# Altium footprint library QFN-28 (5x6).PcbLib: 1 footprints
Each footprint in its own frame and in the unit in brackets; x right, y up, seen from the top. Pads: shape width x height; smd on the part's side, far side on the other; paste and mask are expansions set on the pad; w line width, h text height; cw(c..) or ccw(c..) is an arc to the next point about the centre after c.
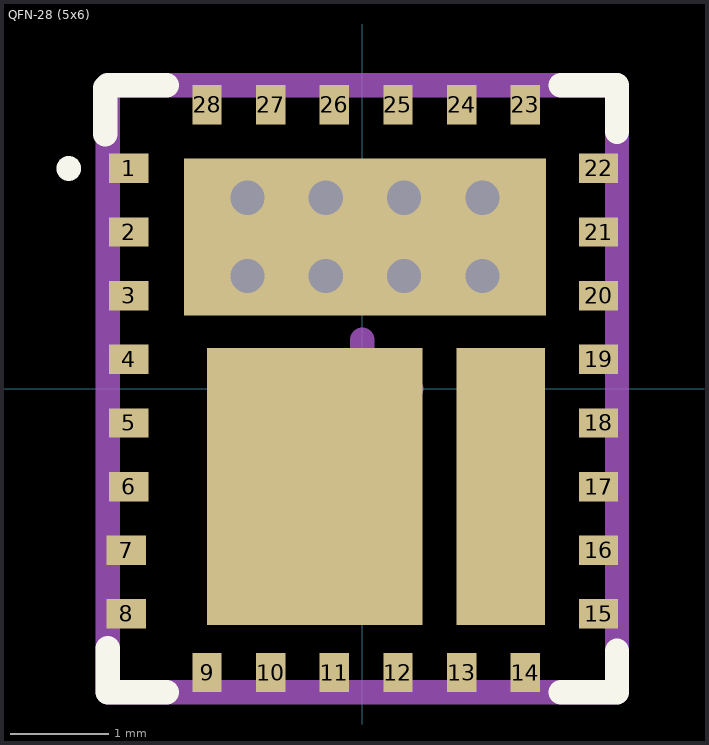
[diagram p0: the footprint, top view; thin cyan lines are the x and y axes]

## QFN-28 (5x6) [mm]
pads (31):
  rect 0.4x0.3 smd mask+0.051: 1(-2.388,2.25) 2(-2.388,1.6) 3(-2.388,0.95) 4(-2.388,0.3) 5(-2.388,-0.35) 6(-2.388,-1) 7(-2.412,-1.65) 8(-2.412,-2.3) 15(2.412,-2.3) 16(2.412,-1.65) 17(2.412,-1) 18(2.412,-0.35) 19(2.412,0.3) 20(2.412,0.95) 21(2.412,1.6) 22(2.412,2.25)
  rect 0.3x0.4 smd mask+0.051: 9(-1.587,-2.9) 10(-0.937,-2.9) 11(-0.288,-2.9) 12(0.363,-2.9) 13(1.012,-2.9) 14(1.663,-2.9) 23(1.662,2.9) 24(1.012,2.9) 25(0.362,2.9) 26(-0.288,2.9) 27(-0.938,2.9) 28(-1.588,2.9)
  rect 2.2x2.83 smd mask+0.051: ""(-0.488,-1)
  rect 3.7x1.6 smd mask+0.051: ""(0.025,1.55)
  rect 0.9x2.83 smd mask+0.051: ""(1.412,-1)
via -0.375,1.15 diameter 0.35 hole 0.35
via 1.225,1.95 diameter 0.35 hole 0.35
via -0.375,1.95 diameter 0.35 hole 0.35
via -1.175,1.15 diameter 0.35 hole 0.35
via -1.175,1.95 diameter 0.35 hole 0.35
via 0.425,1.15 diameter 0.35 hole 0.35
via 0.425,1.95 diameter 0.35 hole 0.35
via 1.225,1.15 diameter 0.35 hole 0.35
Top Overlay:
  circle w0.254: c-3,2.25 r0
  lines w0.25: -2.625,2.6 -2.625,3.075 -2.6,3.1 -2,3.1 ; -2.6,-2.65 -2.6,-3.1 -2,-3.1 ; 2.025,-3.1 2.6,-3.1 2.6,-2.675 ; 2.025,3.1 2.6,3.1 2.6,2.625
Mechanical 13:
  lines w0.25: -2.6,-3.1 2.6,-3.1 2.6,3.1 -2.6,3.1 -2.6,-3.1
Mechanical 15:
  lines w0.25: -0.5,0 0,0 ; 0,-0.5 0,0 ; 0,0.5 0,0 ; 0.5,0 0,0
3D body: height 0.85, standoff 0, extent -2.6,-3.1 2.625,3.1